# Altium schematic symbol library SN74AHC1G04DBVR.SchLib: 1 symbol
Pins are listed as number, name and electrical type; pins without a type are passive.

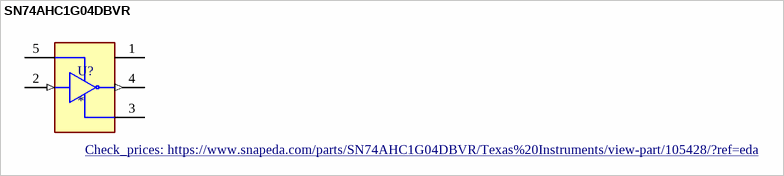
[diagram p0: symbol SN74AHC1G04DBVR]

## SN74AHC1G04DBVR
designator U?
Single Inverter Gate 5-SOT-23 -40 to 125; MF: Texas Instruments; MP: SN74AHC1G04DBVR; Mouser-Purchase-URL: https://snapeda.com/shop?store=Mouser&id=105428; Value: *; DigiKey-Purchase-URL: https://snapeda.com/shop?store=DigiKey&id=105428; Package: SOT-23-5 Texas Instruments; Arrow_Electronics-Purchase-URL: https://snapeda.com/shop?store=Arrow+Electronics&id=105428; Price: None; SnapEDA_Link: https://www.snapeda.com/parts/SN74AHC1G04DBVR/Texas%20Instruments/view-part/105428/?ref=snap; Availability: Good; Texas_Instruments-Purchase-URL: https://snapeda.com/shop?store=Texas+Instruments&id=105428; Check_prices: https://www.snapeda.com/parts/SN74AHC1G04DBVR/Texas%20Instruments/view-part/105428/?ref=eda
pins: 1 NC, 2 A (in), 3 GND (power), 4 Y (out), 5 VCC (power)